# EAGLE library part 4P-SMD-1MM-JST-SH (library CYCFI_Con)
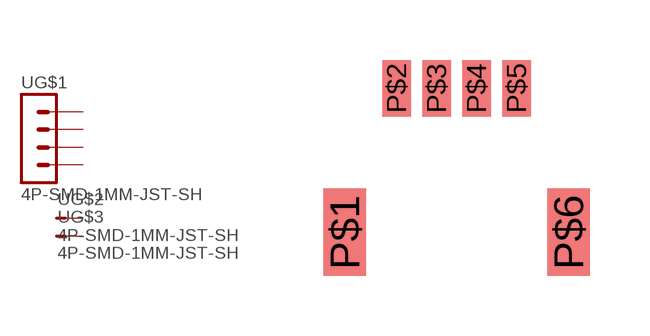
[diagram p32: symbol with the pads of 4P-SMD-JST-1MM; footprint 4P-SMD-JST-1MM]

Designator prefix -; gates G$1=4PIN_1 G$2=1PIN G$3=1PIN

## 4P-SMD-1MM-JST-SH  [4P-SMD-JST-1MM]
P$1  G$2:P  pas
P$2  G$1:1  pas
P$3  G$1:2  pas
P$4  G$1:3  pas
P$5  G$1:4  pas
P$6  G$3:P  pas

## Footprint 4P-SMD-JST-1MM (pad centres in mm)
smd 1.067 x 2.184: P$1 0,1.1; P$6 5.6,1.1
smd 0.711 x 1.422: P$2 1.3,4.7; P$3 2.3,4.7; P$4 3.3,4.7; P$5 4.3,4.7